# Altium schematic symbol library MSS1038-183MLB.SCHLIB: 1 symbol
Pins are listed as number, name and electrical type; pins without a type are passive.

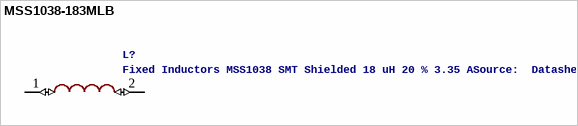
[diagram p0: symbol MSS1038-183MLB]

## MSS1038-183MLB
designator L?, comment Fixed Inductors MSS1038 SMT Shielded 18 uH 20 % 3.35 ASource:  Datasheet
Manufacturer_Name: COILCRAFT; GateName_1: G$1; SymbolName_1: MSS1038-183MLB; LibraryName: MSS1038-183MLB; DeviceSetName: MSS1038-183MLB; Package: INDM102102X400N; Manufacturer_Part_Number: MSS1038-183MLB; Arrow_Part_Number: MSS1038-183MLB; Description: Fixed Inductors MSS1038 SMT Shielded 18 uH 20 % 3.35 A; Height: 4mm
footprint INDM102102X400N
pins: 1 (io), 2 (io)